# EAGLE library part MCP23018 (library bschulz)
MCP23018 - I2C I/O Expander, 16 bit wtih interrupt and reset Characteristics: Vcc: 1.8V ~ 5.5V IOut: 25 mA IQ: 1μA Operating Temperature: -40°C to 85°C Internal Configurable Pullups Digikey: MCP23018T-E/MJCT-ND (QFN) <https://www.digikey.com/products/en/integrated-circuits-ics/interface-i-o-expanders/749?k=mcp23018&k=&pkeyword=mcp23018&sv=0&pv1291=4438&sf=0&FV=ffe002ed%2C1c0002%2C1140003&quantity=&ColumnSort=0&page=1&stock=1&pageSize=25>
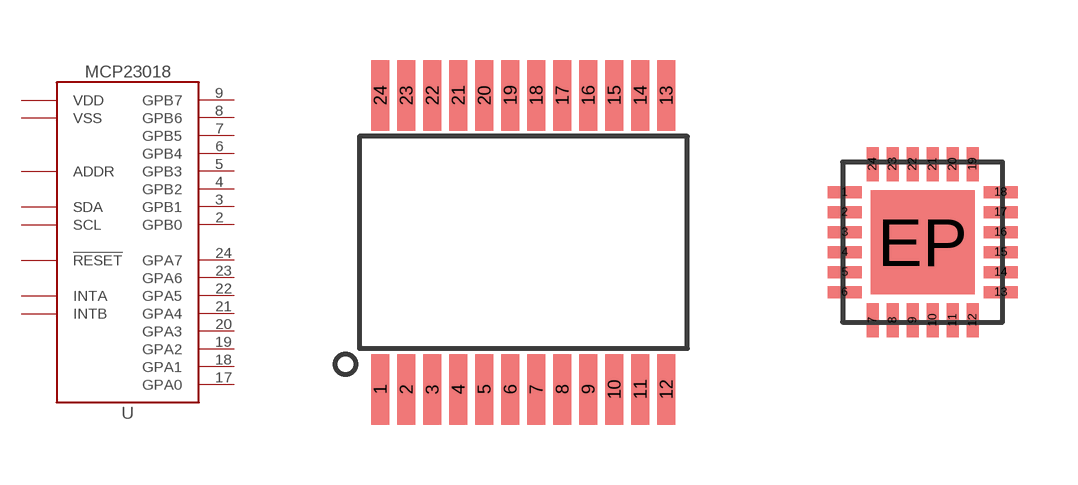
[diagram p99: symbol with the pads of SSOP24; footprints SSOP24, QFN24]

Designator prefix U

## MCP23018SSOP  [SSOP24]
1  VSS  pwr
2  GPB0
3  GPB1
4  GPB2
5  GPB3
6  GPB4
7  GPB5
8  GPB6
9  GPB7
10  VDD  pwr
11  SCL  in
12  SDA
13  ADDR  in
14  !RESET  in
15  INTB  out
16  INTA  out
17  GPA0
18  GPA1
19  GPA2
20  GPA3
21  GPA4
22  GPA5
23  GPA6
24  GPA7

## MCP23018QFN (DIGIKEY: MCP23018T-E/MJCT-ND; MF: TI; MPN: MCP23018T-E/MJ)  [QFN24]
1  GPB1
2  GPB2
3  GPB3
4  GPB4
5  GPB5
6  GPB6
7  GPB7
8  VDD  pwr
9  SCL  in
10  SDA
11  ADDR  in
12  !RESET  in
13  INTB  out
14  INTA  out
15  GPA0
16  GPA1
17  GPA2
18  GPA3
19  GPA4
20  GPA5
21  GPA6
22  GPA7
23  VSS  pwr
24  GPB0
EP  VSS  pwr

## Footprint SSOP24 (pad centres in mm)
smd 0.451 x 1.766: 1 -3.575,-3.675; 2 -2.925,-3.675; 3 -2.275,-3.675; 4 -1.625,-3.675; 5 -0.975,-3.675; 6 -0.325,-3.675; 7 0.325,-3.675; 8 0.975,-3.675; 9 1.625,-3.675; 10 2.275,-3.675; 11 2.925,-3.675; 12 3.575,-3.675; 13 3.575,3.675; 14 2.925,3.675; 15 2.275,3.675; 16 1.625,3.675; 17 0.975,3.675; 18 0.325,3.675; 19 -0.325,3.675; 20 -0.975,3.675; 21 -1.625,3.675; 22 -2.275,3.675; 23 -2.925,3.675; 24 -3.575,3.675

## Footprint QFN24 (pad centres in mm)
24 pin QFN package, 4x4 mm size, 0.5mm pitch Reference <http://ww1.microchip.com/downloads/en/devicedoc/22103a.pdf> Note: 0.5mm vs 0.65mm pitch discrepancy between land pattern and package drawing!
smd 0.85 x 0.3: 1 -1.95,1.25; 2 -1.95,0.75; 3 -1.95,0.25; 4 -1.95,-0.25; 5 -1.95,-0.75; 6 -1.95,-1.25; 13 1.95,-1.25; 14 1.95,-0.75; 15 1.95,-0.25; 16 1.95,0.25; 17 1.95,0.75; 18 1.95,1.25
smd 0.3 x 0.85: 7 -1.25,-1.95; 8 -0.75,-1.95; 9 -0.25,-1.95; 10 0.25,-1.95; 11 0.75,-1.95; 12 1.25,-1.95; 19 1.25,1.95; 20 0.75,1.95; 21 0.25,1.95; 22 -0.25,1.95; 23 -0.75,1.95; 24 -1.25,1.95
smd 2.6 x 2.6: EP 0,0